# EAGLE library part PBH2U (library switch-e-switch)
2PDT PUSHBUTTON SWITCH
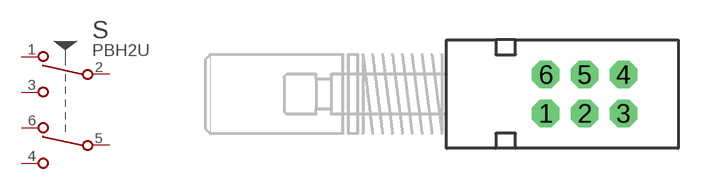
[diagram p0: symbol with the pads of PBH2U; footprint PBH2U]

Designator prefix S

## PBH2U  [PBH2U]
1  A-NC  pas
2  A-COM  pas
3  A-NO  pas
4  B-NO  pas
5  B-COM  pas
6  B-NC  pas

## Footprint PBH2U (pad centres in mm)
Pushbutton Switch PBH Series
drill 0.813 pad 1.778 octagon: 1 -2.5,-1.25; 2 0,-1.25; 3 2.5,-1.25; 4 2.5,1.25; 5 0,1.25; 6 -2.5,1.25